# Altium schematic symbol library Adafruit TCA9548A.SCHLIB: 9 symbols
Pins are listed as number, name and electrical type; pins without a type are passive.

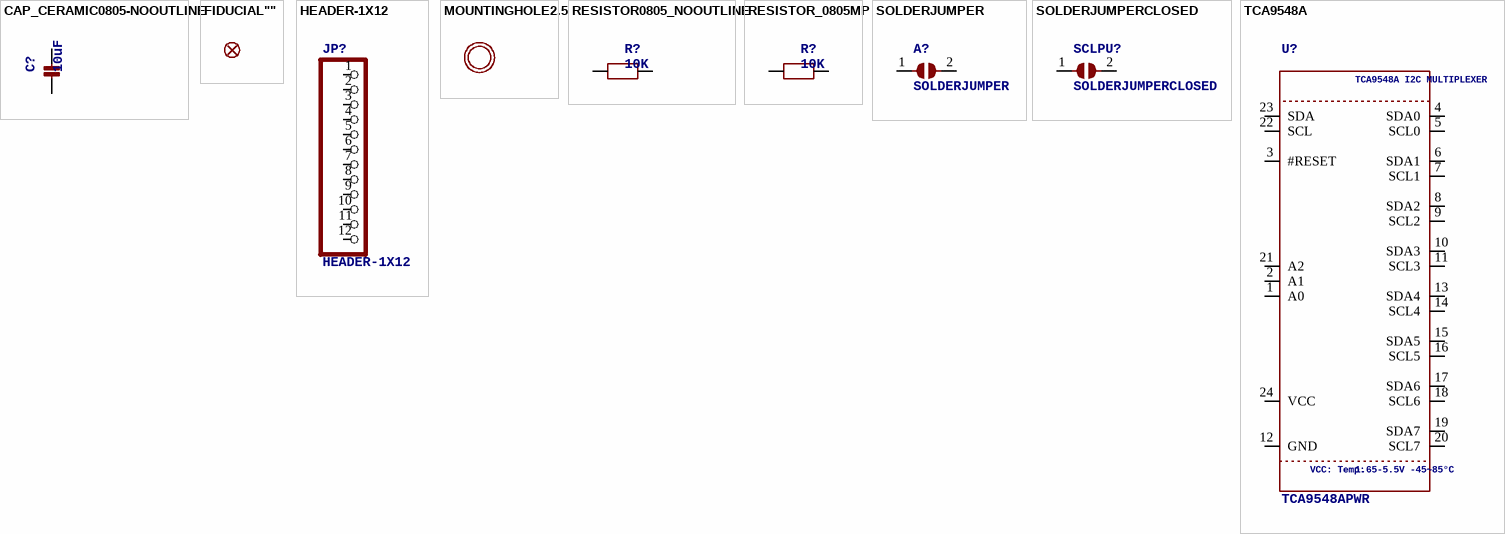
[diagram p0: symbols CAP_CERAMIC0805-NOOUTLINE to TCA9548A]

## CAP_CERAMIC0805-NOOUTLINE
designator C?, comment 10uF
<p><b>Ceramic Capacitors</b></p> / <p>For new designs, use the packages preceded by an '_' character since they are more reliable:</p> / <p>The following footprints should be used on most boards:</p> / <ul> / <li><b>_0402</b> - Standard footprint for regular board layouts</li> / <li><b>_0603</b> - Standard footprint for regular board layouts</li> / <li><b>_0805</b> - Standard footprint for regular board layouts</li> / <li><b>_1206</b> - Standard footprint for regular board layouts</li> / </ul> / <p>For extremely tight-pitch boards where space is at a premium, the following 'micro-pitch' footprints can be used (smaller pads, no silkscreen outline, etc.):</p> / <ul> / <li><b>_0402MP</b> - Micro-pitch footprint for very dense/compact boards</li> / <li><b>_0603MP</b> - Micro-pitch footprint for very dense/compact boards</li> / <li><b>_0805MP</b> - Micro-pitch footprint for very dense/compact boards</li> / <li><b>_1206MP</b> - Micro-pitch footprint for very dense/compact boards</li> / </ul>
footprint 0805-NO
pins: 1, 2

## FIDUCIAL""
designator FID?  (value not drawn)
<b>Fiducial Alignment Points</b> / <p>Various fiducial points for machine vision alignment.</p>; BOM: EXCLUDE
footprint FIDUCIAL_1MM

## HEADER-1X12
designator JP?
footprint 1X12_ROUND
pins: 1, 2, 3, 4, 5, 6, 7, 8, 9, 10, 11, 12

## MOUNTINGHOLE2.5
designator U$?  (value not drawn)
<b>Mounting Hole</b> / <p>For #2 screws (0.086"/2.18mm width, 0.094"/2.4mm hole) use 2.5mm</p>; BOM: EXCLUDE
footprint MOUNTINGHOLE_2.5_PLATED

## RESISTOR0805_NOOUTLINE
designator R?, comment 10K
<p><b>Resistors</b></p> / <p>For new designs, use the packages preceded by an '_' character since they are more reliable:</p> / <p>The following footprints should be used on most boards:</p> / <ul> / <li><b>_0402</b> - Standard footprint for regular board layouts</li> / <li><b>_0603</b> - Standard footprint for regular board layouts</li> / <li><b>_0805</b> - Standard footprint for regular board layouts</li> / <li><b>_1206</b> - Standard footprint for regular board layouts</li> / </ul> / <p>For extremely tight-pitch boards where space is at a premium, the following 'micro-pitch' footprints can be used (smaller pads, no silkscreen outline, etc.):</p> / <ul> / <li><b>_0402MP</b> - Micro-pitch footprint for very dense/compact boards</li> / <li><b>_0603MP</b> - Micro-pitch footprint for very dense/compact boards</li> / <li><b>_0805MP</b> - Micro-pitch footprint for very dense/compact boards</li> / <li><b>_1206MP</b> - Micro-pitch footprint for very dense/compact boards</li> / </ul>
footprint 0805-NO
pins: 1, 2

## RESISTOR_0805MP
designator R?, comment 10K
<p><b>Resistors</b></p> / <p>For new designs, use the packages preceded by an '_' character since they are more reliable:</p> / <p>The following footprints should be used on most boards:</p> / <ul> / <li><b>_0402</b> - Standard footprint for regular board layouts</li> / <li><b>_0603</b> - Standard footprint for regular board layouts</li> / <li><b>_0805</b> - Standard footprint for regular board layouts</li> / <li><b>_1206</b> - Standard footprint for regular board layouts</li> / </ul> / <p>For extremely tight-pitch boards where space is at a premium, the following 'micro-pitch' footprints can be used (smaller pads, no silkscreen outline, etc.):</p> / <ul> / <li><b>_0402MP</b> - Micro-pitch footprint for very dense/compact boards</li> / <li><b>_0603MP</b> - Micro-pitch footprint for very dense/compact boards</li> / <li><b>_0805MP</b> - Micro-pitch footprint for very dense/compact boards</li> / <li><b>_1206MP</b> - Micro-pitch footprint for very dense/compact boards</li> / </ul>
footprint _0805MP
pins: 1, 2

## SOLDERJUMPER
designator A?
<p><b>SMD Solder JUMPER</b></p> / <p>Solder the two pads together to create a connection, or remove the solder to break it.</p> / <b>REFLOW</b> - Use this footprint for solder paste and reflow ovens.<br/> / <b>WAVE</b> - Use this footprint for hand-soldering (larger pads). / <p><b>CLOSED</b> - Has a trace between the two pads to ensure it is closed by default.  The trace needs to be cut to disable the jumper, and can be closed again by creating a solder bridge between the two pads.</p>; BOM: EXCLUDE
footprint SOLDERJUMPER_ARROW_NOPASTE
pins: 1, 2

## SOLDERJUMPERCLOSED
designator SCLPU?
<p><b>SMD Solder JUMPER</b></p> / <p>Solder the two pads together to create a connection, or remove the solder to break it.</p> / <b>REFLOW</b> - Use this footprint for solder paste and reflow ovens.<br/> / <b>WAVE</b> - Use this footprint for hand-soldering (larger pads). / <p><b>CLOSED</b> - Has a trace between the two pads to ensure it is closed by default.  The trace needs to be cut to disable the jumper, and can be closed again by creating a solder bridge between the two pads.</p>
footprint SOLDERJUMPER_CLOSEDWIRE
pins: 1, 2

## TCA9548A
designator U?, comment TCA9548APWR
<p><b>TCA9548A I2C Multiplexer</b><p>; TCA9548A
footprint TSSOP24
pins: 1 A0, 2 A1, 3 #RESET, 4 SDA0, 5 SCL0, 6 SDA1, 7 SCL1, 8 SDA2, 9 SCL2, 10 SDA3, 11 SCL3, 12 GND, 13 SDA4, 14 SCL4, 15 SDA5, 16 SCL5, 17 SDA6, 18 SCL6, 19 SDA7, 20 SCL7, 21 A2, 22 SCL, 23 SDA, 24 VCC